# Altium schematic symbol library WCAP-ATLL.SchLib: 209 symbols (part 4 of 5)
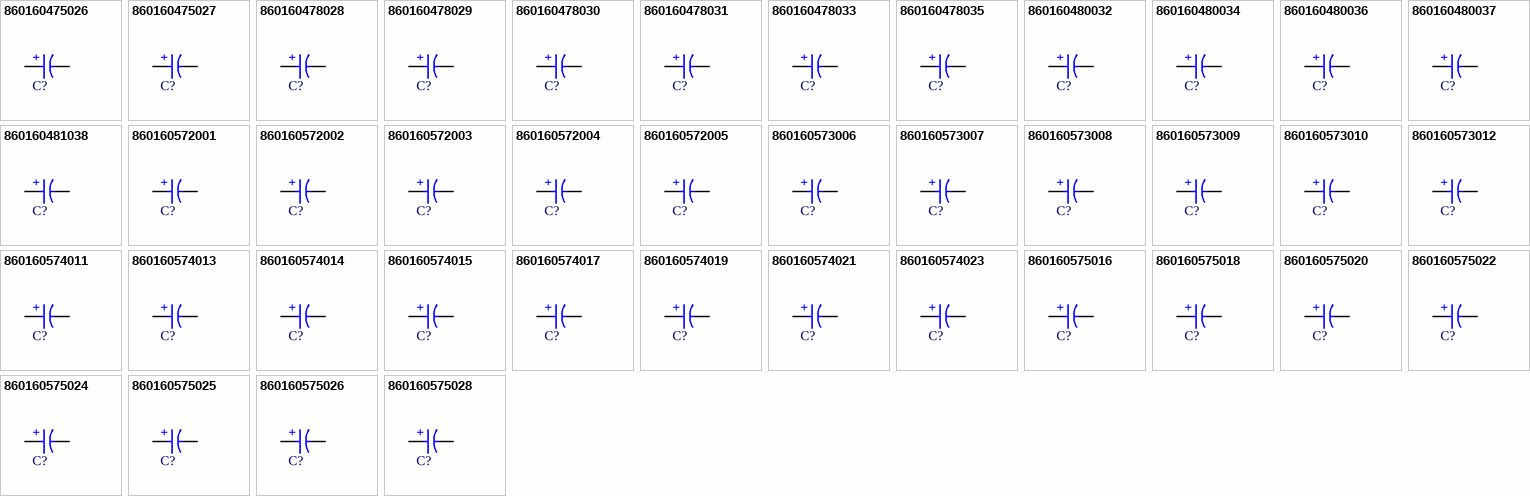
[diagram p8: symbols 860160475026 to 860160575028]

## 860160575024
designator C?, comment 330µF  (value not drawn)
WCAP-ATLL Aluminum Electrolytic Capacitor, Radial, THT, D10 x H16mm, 330µF, 35V; Manufacturer Part Number: 860160575024; Manufacturer: Wurth Elektronik; Capacitance Tolerance: +/-20%; Dissipation Factor: 12%; Endurance: 6000h; Leakage Current: 115.5µA; Ripple Current: 1176mA; Technical Reference: ATEF160331M035DSPAAF000; Category: Aluminum Electrolytic Capacitors; Match Code: WCAP-ATLL; ComponentLink1Description: Website Link; ComponentLink1URL: https://www.we-online.com/redexpert/article/860160575024?ad; ComponentLink2Description: Datasheet Link; ComponentLink2URL: https://www.we-online.com/redexpert/spec/860160575024?ad; Mount: Through Hole; Operating Temperature Max: 105°C; Operating Temperature Min: -55°C; Packaging: Ammo Pack; Height: 16mm; Diameter: 10mm; Capacitance: 330µF; Rated Voltage (DC): 35V
footprint WCAP-ATLL_D10H16
simulation model 860160575024_330uF
pins: 1 P, 2 N
text: +

## 860160575025
designator C?, comment 470µF  (value not drawn)
WCAP-ATLL Aluminum Electrolytic Capacitor, Radial, THT, D10 x H20mm, 470µF, 35V; Manufacturer Part Number: 860160575025; Manufacturer: Wurth Elektronik; Capacitance Tolerance: +/-20%; Dissipation Factor: 12%; Endurance: 6000h; Leakage Current: 164.5µA; Ripple Current: 1302mA; Technical Reference: ATEF200471M035DSPAAF000; Category: Aluminum Electrolytic Capacitors; Match Code: WCAP-ATLL; ComponentLink1Description: Website Link; ComponentLink1URL: https://www.we-online.com/redexpert/article/860160575025?ad; ComponentLink2Description: Datasheet Link; ComponentLink2URL: https://www.we-online.com/redexpert/spec/860160575025?ad; Mount: Through Hole; Operating Temperature Max: 105°C; Operating Temperature Min: -55°C; Packaging: Ammo Pack; Height: 20mm; Diameter: 10mm; Capacitance: 470µF; Rated Voltage (DC): 35V
footprint WCAP-ATLL_D10H20
simulation model 860160575025_470uF
pins: 1 P, 2 N
text: +

## 860160575026
designator C?, comment 560µF  (value not drawn)
WCAP-ATLL Aluminum Electrolytic Capacitor, Radial, THT, D10 x H25mm, 560µF, 35V; Manufacturer Part Number: 860160575026; Manufacturer: Wurth Elektronik; Capacitance Tolerance: +/-20%; Dissipation Factor: 12%; Endurance: 6000h; Leakage Current: 196µA; Ripple Current: 1572mA; Technical Reference: ATEF250561M035DSPAAF000; Category: Aluminum Electrolytic Capacitors; Match Code: WCAP-ATLL; ComponentLink1Description: Website Link; ComponentLink1URL: https://www.we-online.com/redexpert/article/860160575026?ad; ComponentLink2Description: Datasheet Link; ComponentLink2URL: https://www.we-online.com/redexpert/spec/860160575026?ad; Mount: Through Hole; Operating Temperature Max: 105°C; Operating Temperature Min: -55°C; Packaging: Ammo Pack; Height: 25mm; Diameter: 10mm; Capacitance: 560µF; Rated Voltage (DC): 35V
footprint WCAP-ATLL_D10H25
simulation model 860160575026_560uF
pins: 1 P, 2 N
text: +

## 860160575028
designator C?, comment 680µF  (value not drawn)
WCAP-ATLL Aluminum Electrolytic Capacitor, Radial, THT, D10 x H25mm, 680µF, 35V; Manufacturer Part Number: 860160575028; Manufacturer: Wurth Elektronik; Capacitance Tolerance: +/-20%; Dissipation Factor: 12%; Endurance: 6000h; Leakage Current: 238µA; Ripple Current: 1680mA; Technical Reference: ATEF250681M035DSPAAF000; Category: Aluminum Electrolytic Capacitors; Match Code: WCAP-ATLL; ComponentLink1Description: Website Link; ComponentLink1URL: https://www.we-online.com/redexpert/article/860160575028?ad; ComponentLink2Description: Datasheet Link; ComponentLink2URL: https://www.we-online.com/redexpert/spec/860160575028?ad; Mount: Through Hole; Operating Temperature Max: 105°C; Operating Temperature Min: -55°C; Packaging: Ammo Pack; Height: 25mm; Diameter: 10mm; Capacitance: 680µF; Rated Voltage (DC): 35V
footprint WCAP-ATLL_D10H25
simulation model 860160575028_680uF
pins: 1 P, 2 N
text: +

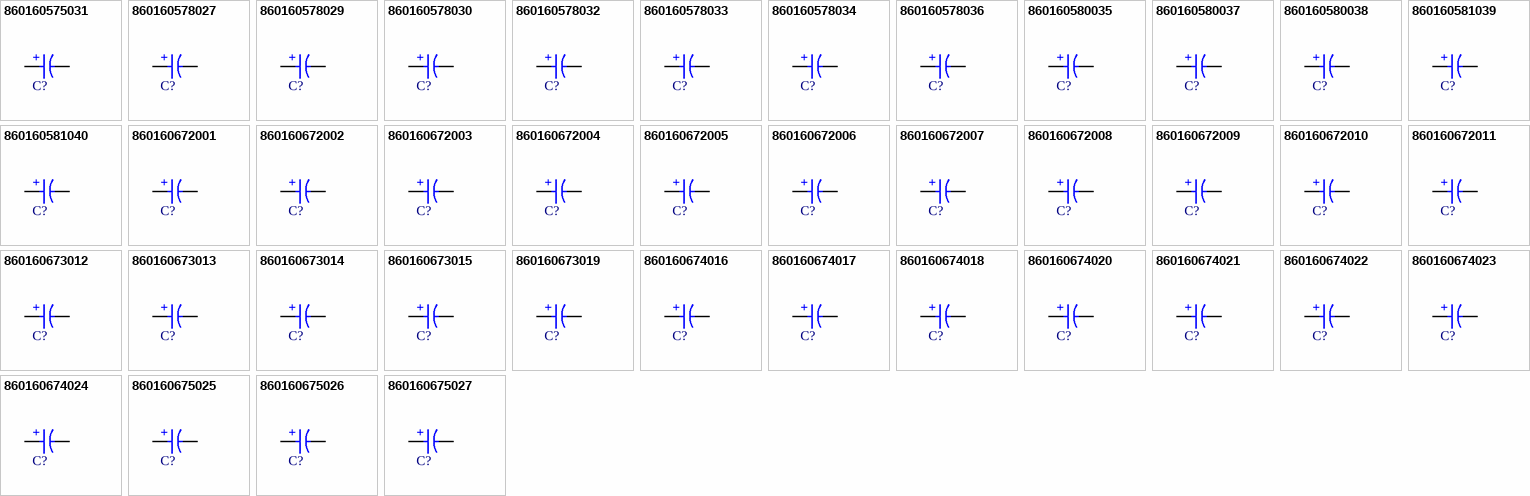
[diagram p4: symbols 860160575031 to 860160675027]

## 860160575031
designator C?, comment 1000µF  (value not drawn)
WCAP-ATLL Aluminum Electrolytic Capacitor, Radial, THT, D10 x H30mm, 1000µF, 35V; Manufacturer Part Number: 860160575031; Manufacturer: Wurth Elektronik; Capacitance Tolerance: +/-20%; Dissipation Factor: 12%; Endurance: 6000h; Leakage Current: 350µA; Ripple Current: 2136mA; Technical Reference: ATEF300102M035DSPAAF000; Category: Aluminum Electrolytic Capacitors; Match Code: WCAP-ATLL; ComponentLink1Description: Website Link; ComponentLink1URL: https://www.we-online.com/redexpert/article/860160575031?ad; ComponentLink2Description: Datasheet Link; ComponentLink2URL: https://www.we-online.com/redexpert/spec/860160575031?ad; Mount: Through Hole; Operating Temperature Max: 105°C; Operating Temperature Min: -55°C; Packaging: Ammo Pack; Height: 30mm; Diameter: 10mm; Capacitance: 1000µF; Rated Voltage (DC): 35V
footprint WCAP-ATLL_D10H30
simulation model 860160575031_1mF
pins: 1 P, 2 N
text: +

## 860160578027
designator C?, comment 560µF  (value not drawn)
WCAP-ATLL Aluminum Electrolytic Capacitor, Radial, THT, D13 x H20mm, 560µF, 35V; Manufacturer Part Number: 860160578027; Manufacturer: Wurth Elektronik; Capacitance Tolerance: +/-20%; Dissipation Factor: 12%; Endurance: 10000h; Leakage Current: 196µA; Ripple Current: 1584mA; Technical Reference: ATEI200561M035DSPACK000; Category: Aluminum Electrolytic Capacitors; Match Code: WCAP-ATLL; ComponentLink1Description: Website Link; ComponentLink1URL: https://www.we-online.com/redexpert/article/860160578027?ad; ComponentLink2Description: Datasheet Link; ComponentLink2URL: https://www.we-online.com/redexpert/spec/860160578027?ad; Mount: Through Hole; Operating Temperature Max: 105°C; Operating Temperature Min: -55°C; Packaging: Ammo Pack; Height: 20mm; Diameter: 13mm; Capacitance: 560µF; Rated Voltage (DC): 35V
footprint WCAP-ATLL_D13H20
simulation model 860160578027_560uF
pins: 1 P, 2 N
text: +

## 860160578029
designator C?, comment 680µF  (value not drawn)
WCAP-ATLL Aluminum Electrolytic Capacitor, Radial, THT, D13 x H20mm, 680µF, 35V; Manufacturer Part Number: 860160578029; Manufacturer: Wurth Elektronik; Capacitance Tolerance: +/-20%; Dissipation Factor: 12%; Endurance: 10000h; Leakage Current: 238µA; Ripple Current: 1692mA; Technical Reference: ATEI200681M035DSPACK000; Category: Aluminum Electrolytic Capacitors; Match Code: WCAP-ATLL; ComponentLink1Description: Website Link; ComponentLink1URL: https://www.we-online.com/redexpert/article/860160578029?ad; ComponentLink2Description: Datasheet Link; ComponentLink2URL: https://www.we-online.com/redexpert/spec/860160578029?ad; Mount: Through Hole; Operating Temperature Max: 105°C; Operating Temperature Min: -55°C; Packaging: Ammo Pack; Height: 20mm; Diameter: 13mm; Capacitance: 680µF; Rated Voltage (DC): 35V
footprint WCAP-ATLL_D13H20
simulation model 860160578029_680uF
pins: 1 P, 2 N
text: +

## 860160578030
designator C?, comment 820µF  (value not drawn)
WCAP-ATLL Aluminum Electrolytic Capacitor, Radial, THT, D13 x H20mm, 820µF, 35V; Manufacturer Part Number: 860160578030; Manufacturer: Wurth Elektronik; Capacitance Tolerance: +/-20%; Dissipation Factor: 12%; Endurance: 7000h; Leakage Current: 287µA; Ripple Current: 1818mA; Technical Reference: ATEI200821M035DSPACG000; Category: Aluminum Electrolytic Capacitors; Match Code: WCAP-ATLL; ComponentLink1Description: Website Link; ComponentLink1URL: https://www.we-online.com/redexpert/article/860160578030?ad; ComponentLink2Description: Datasheet Link; ComponentLink2URL: https://www.we-online.com/redexpert/spec/860160578030?ad; Mount: Through Hole; Operating Temperature Max: 105°C; Operating Temperature Min: -55°C; Packaging: Ammo Pack; Height: 20mm; Diameter: 13mm; Capacitance: 820µF; Rated Voltage (DC): 35V
footprint WCAP-ATLL_D13H20
simulation model 860160578030_820uF
pins: 1 P, 2 N
text: +

## 860160578032
designator C?, comment 1000µF  (value not drawn)
WCAP-ATLL Aluminum Electrolytic Capacitor, Radial, THT, D13 x H25mm, 1000µF, 35V; Manufacturer Part Number: 860160578032; Manufacturer: Wurth Elektronik; Capacitance Tolerance: +/-20%; Dissipation Factor: 12%; Endurance: 7000h; Leakage Current: 350µA; Ripple Current: 2184mA; Technical Reference: ATEI250102M035DSPACG000; Category: Aluminum Electrolytic Capacitors; Match Code: WCAP-ATLL; ComponentLink1Description: Website Link; ComponentLink1URL: https://www.we-online.com/redexpert/article/860160578032?ad; ComponentLink2Description: Datasheet Link; ComponentLink2URL: https://www.we-online.com/redexpert/spec/860160578032?ad; Mount: Through Hole; Operating Temperature Max: 105°C; Operating Temperature Min: -55°C; Packaging: Ammo Pack; Height: 25mm; Diameter: 13mm; Capacitance: 1000µF; Rated Voltage (DC): 35V
footprint WCAP-ATLL_D13H25
simulation model 860160578032_1mF
pins: 1 P, 2 N
text: +

## 860160578033
designator C?, comment 1200µF  (value not drawn)
WCAP-ATLL Aluminum Electrolytic Capacitor, Radial, THT, D13 x H25mm, 1200µF, 35V; Manufacturer Part Number: 860160578033; Manufacturer: Wurth Elektronik; Capacitance Tolerance: +/-20%; Dissipation Factor: 12%; Endurance: 7000h; Leakage Current: 420µA; Ripple Current: 2292mA; Technical Reference: ATEI250122M035DSPACG000; Category: Aluminum Electrolytic Capacitors; Match Code: WCAP-ATLL; ComponentLink1Description: Website Link; ComponentLink1URL: https://www.we-online.com/redexpert/article/860160578033?ad; ComponentLink2Description: Datasheet Link; ComponentLink2URL: https://www.we-online.com/redexpert/spec/860160578033?ad; Mount: Through Hole; Operating Temperature Max: 105°C; Operating Temperature Min: -55°C; Packaging: Ammo Pack; Height: 25mm; Diameter: 13mm; Capacitance: 1200µF; Rated Voltage (DC): 35V
footprint WCAP-ATLL_D13H25
simulation model 860160578033_1.2mF
pins: 1 P, 2 N
text: +

## 860160578034
designator C?, comment 1500µF  (value not drawn)
WCAP-ATLL Aluminum Electrolytic Capacitor, Radial, THT, D13 x H35mm, 1500µF, 35V; Manufacturer Part Number: 860160578034; Manufacturer: Wurth Elektronik; Capacitance Tolerance: +/-20%; Dissipation Factor: 12%; Endurance: 7000h; Leakage Current: 525µA; Ripple Current: 2820mA; Technical Reference: ATEI350152M035DSPABG000; Category: Aluminum Electrolytic Capacitors; Match Code: WCAP-ATLL; ComponentLink1Description: Website Link; ComponentLink1URL: https://www.we-online.com/redexpert/article/860160578034?ad; ComponentLink2Description: Datasheet Link; ComponentLink2URL: https://www.we-online.com/redexpert/spec/860160578034?ad; Mount: Through Hole; Operating Temperature Max: 105°C; Operating Temperature Min: -55°C; Packaging: Ammo Pack; Height: 35mm; Diameter: 13mm; Capacitance: 1500µF; Rated Voltage (DC): 35V
footprint WCAP-ATLL_D13H35
simulation model 860160578034_1.5mF
pins: 1 P, 2 N
text: +

## 860160578036
designator C?, comment 1800µF  (value not drawn)
WCAP-ATLL Aluminum Electrolytic Capacitor, Radial, THT, D13 x H35mm, 1800µF, 35V; Manufacturer Part Number: 860160578036; Manufacturer: Wurth Elektronik; Capacitance Tolerance: +/-20%; Dissipation Factor: 12%; Endurance: 7000h; Leakage Current: 630µA; Ripple Current: 2976mA; Technical Reference: ATEI350182M035DSPABG000; Category: Aluminum Electrolytic Capacitors; Match Code: WCAP-ATLL; ComponentLink1Description: Website Link; ComponentLink1URL: https://www.we-online.com/redexpert/article/860160578036?ad; ComponentLink2Description: Datasheet Link; ComponentLink2URL: https://www.we-online.com/redexpert/spec/860160578036?ad; Mount: Through Hole; Operating Temperature Max: 105°C; Operating Temperature Min: -55°C; Packaging: Ammo Pack; Height: 35mm; Diameter: 13mm; Capacitance: 1800µF; Rated Voltage (DC): 35V
footprint WCAP-ATLL_D13H35
simulation model 860160578036_1.8mF
pins: 1 P, 2 N
text: +

## 860160580035
designator C?, comment 1500µF  (value not drawn)
WCAP-ATLL Aluminum Electrolytic Capacitor, Radial, THT, D16 x H31.5mm, 1500µF, 35V; Manufacturer Part Number: 860160580035; Manufacturer: Wurth Elektronik; Capacitance Tolerance: +/-20%; Dissipation Factor: 12%; Endurance: 10000h; Leakage Current: 525µA; Ripple Current: 2928mA; Technical Reference: ATEK315152M035DSPADK000; Category: Aluminum Electrolytic Capacitors; Match Code: WCAP-ATLL; ComponentLink1Description: Website Link; ComponentLink1URL: https://www.we-online.com/redexpert/article/860160580035?ad; ComponentLink2Description: Datasheet Link; ComponentLink2URL: https://www.we-online.com/redexpert/spec/860160580035?ad; Mount: Through Hole; Operating Temperature Max: 105°C; Operating Temperature Min: -55°C; Packaging: Ammo Pack; Height: 31.5mm; Diameter: 16mm; Capacitance: 1500µF; Rated Voltage (DC): 35V
footprint WCAP-ATLL_D16H31.5
simulation model 860160580035_1.5mF
pins: 1 P, 2 N
text: +

## 860160580037
designator C?, comment 1800µF  (value not drawn)
WCAP-ATLL Aluminum Electrolytic Capacitor, Radial, THT, D16 x H31.5mm, 1800µF, 35V; Manufacturer Part Number: 860160580037; Manufacturer: Wurth Elektronik; Capacitance Tolerance: +/-20%; Dissipation Factor: 12%; Endurance: 10000h; Leakage Current: 630µA; Ripple Current: 3012mA; Technical Reference: ATEK315182M035DSPADK000; Category: Aluminum Electrolytic Capacitors; Match Code: WCAP-ATLL; ComponentLink1Description: Website Link; ComponentLink1URL: https://www.we-online.com/redexpert/article/860160580037?ad; ComponentLink2Description: Datasheet Link; ComponentLink2URL: https://www.we-online.com/redexpert/spec/860160580037?ad; Mount: Through Hole; Operating Temperature Max: 105°C; Operating Temperature Min: -55°C; Packaging: Ammo Pack; Height: 31.5mm; Diameter: 16mm; Capacitance: 1800µF; Rated Voltage (DC): 35V
footprint WCAP-ATLL_D16H31.5
simulation model 860160580037_1.8mF
pins: 1 P, 2 N
text: +

## 860160580038
designator C?, comment 2200µF  (value not drawn)
WCAP-ATLL Aluminum Electrolytic Capacitor, Radial, THT, D16 x H31.5mm, 2200µF, 35V; Manufacturer Part Number: 860160580038; Manufacturer: Wurth Elektronik; Capacitance Tolerance: +/-20%; Dissipation Factor: 12%; Endurance: 7000h; Leakage Current: 770µA; Ripple Current: 3228mA; Technical Reference: ATEK315222M035DSPADG000; Category: Aluminum Electrolytic Capacitors; Match Code: WCAP-ATLL; ComponentLink1Description: Website Link; ComponentLink1URL: https://www.we-online.com/redexpert/article/860160580038?ad; ComponentLink2Description: Datasheet Link; ComponentLink2URL: https://www.we-online.com/redexpert/spec/860160580038?ad; Mount: Through Hole; Operating Temperature Max: 105°C; Operating Temperature Min: -55°C; Packaging: Ammo Pack; Height: 31.5mm; Diameter: 16mm; Capacitance: 2200µF; Rated Voltage (DC): 35V
footprint WCAP-ATLL_D16H31.5
simulation model 860160580038_2.2mF
pins: 1 P, 2 N
text: +

## 860160581039
designator C?, comment 2200µF  (value not drawn)
WCAP-ATLL Aluminum Electrolytic Capacitor, Radial, THT, D18 x H25mm, 2200µF, 35V; Manufacturer Part Number: 860160581039; Manufacturer: Wurth Elektronik; Capacitance Tolerance: +/-20%; Dissipation Factor: 12%; Endurance: 7000h; Leakage Current: 770µA; Ripple Current: 3132mA; Technical Reference: ATEL250222M035DSPAEG000; Category: Aluminum Electrolytic Capacitors; Match Code: WCAP-ATLL; ComponentLink1Description: Website Link; ComponentLink1URL: https://www.we-online.com/redexpert/article/860160581039?ad; ComponentLink2Description: Datasheet Link; ComponentLink2URL: https://www.we-online.com/redexpert/spec/860160581039?ad; Mount: Through Hole; Operating Temperature Max: 105°C; Operating Temperature Min: -55°C; Packaging: Ammo Pack; Height: 25mm; Diameter: 18mm; Capacitance: 2200µF; Rated Voltage (DC): 35V
footprint WCAP-ATLL_D18H25
simulation model 860160581039_2.2mF
pins: 1 P, 2 N
text: +

## 860160581040
designator C?, comment 2700µF  (value not drawn)
WCAP-ATLL Aluminum Electrolytic Capacitor, Radial, THT, D18 x H31.5mm, 2700µF, 35V; Manufacturer Part Number: 860160581040; Manufacturer: Wurth Elektronik; Capacitance Tolerance: +/-20%; Dissipation Factor: 12%; Endurance: 7000h; Leakage Current: 945µA; Ripple Current: 3336mA; Technical Reference: ATEL315272M035DSPAEG000; Category: Aluminum Electrolytic Capacitors; Match Code: WCAP-ATLL; ComponentLink1Description: Website Link; ComponentLink1URL: https://www.we-online.com/redexpert/article/860160581040?ad; ComponentLink2Description: Datasheet Link; ComponentLink2URL: https://www.we-online.com/redexpert/spec/860160581040?ad; Mount: Through Hole; Operating Temperature Max: 105°C; Operating Temperature Min: -55°C; Packaging: Ammo Pack; Height: 31.5mm; Diameter: 18mm; Capacitance: 2700µF; Rated Voltage (DC): 35V
footprint WCAP-ATLL_D18H31.5
simulation model 860160581040_2.7mF
pins: 1 P, 2 N
text: +

## 860160672001
designator C?, comment 0.47µF  (value not drawn)
WCAP-ATLL Aluminum Electrolytic Capacitor, Radial, THT, D5 x H11mm, 0.47µF, 50V; Manufacturer Part Number: 860160672001; Manufacturer: Wurth Elektronik; Capacitance Tolerance: +/-20%; Dissipation Factor: 10%; Endurance: 4000h; Leakage Current: 3µA; Ripple Current: 12mA; Technical Reference: ATEC110R47M050DSPA3D000; Category: Aluminum Electrolytic Capacitors; Match Code: WCAP-ATLL; ComponentLink1Description: Website Link; ComponentLink1URL: https://www.we-online.com/redexpert/article/860160672001?ad; ComponentLink2Description: Datasheet Link; ComponentLink2URL: https://www.we-online.com/redexpert/spec/860160672001?ad; Mount: Through Hole; Operating Temperature Max: 105°C; Operating Temperature Min: -55°C; Packaging: Ammo Pack; Height: 11mm; Diameter: 5mm; Capacitance: 0.47µF; Rated Voltage (DC): 50V
footprint WCAP-ATLL_D5H11
simulation model 860160672001_470nF
pins: 1 P, 2 N
text: +

## 860160672002
designator C?, comment 1µF  (value not drawn)
WCAP-ATLL Aluminum Electrolytic Capacitor, Radial, THT, D5 x H11mm, 1µF, 50V; Manufacturer Part Number: 860160672002; Manufacturer: Wurth Elektronik; Capacitance Tolerance: +/-20%; Dissipation Factor: 10%; Endurance: 4000h; Leakage Current: 3µA; Ripple Current: 24mA; Technical Reference: ATEC110010M050DSPA3D000; Category: Aluminum Electrolytic Capacitors; Match Code: WCAP-ATLL; ComponentLink1Description: Website Link; ComponentLink1URL: https://www.we-online.com/redexpert/article/860160672002?ad; ComponentLink2Description: Datasheet Link; ComponentLink2URL: https://www.we-online.com/redexpert/spec/860160672002?ad; Mount: Through Hole; Operating Temperature Max: 105°C; Operating Temperature Min: -55°C; Packaging: Ammo Pack; Height: 11mm; Diameter: 5mm; Capacitance: 1µF; Rated Voltage (DC): 50V
footprint WCAP-ATLL_D5H11
simulation model 860160672002_1uF
pins: 1 P, 2 N
text: +

## 860160672003
designator C?, comment 2.2µF  (value not drawn)
WCAP-ATLL Aluminum Electrolytic Capacitor, Radial, THT, D5 x H11mm, 2.2µF, 50V; Manufacturer Part Number: 860160672003; Manufacturer: Wurth Elektronik; Capacitance Tolerance: +/-20%; Dissipation Factor: 10%; Endurance: 4000h; Leakage Current: 3µA; Ripple Current: 36mA; Technical Reference: ATEC1102R2M050DSPA3D000; Category: Aluminum Electrolytic Capacitors; Match Code: WCAP-ATLL; ComponentLink1Description: Website Link; ComponentLink1URL: https://www.we-online.com/redexpert/article/860160672003?ad; ComponentLink2Description: Datasheet Link; ComponentLink2URL: https://www.we-online.com/redexpert/spec/860160672003?ad; Mount: Through Hole; Operating Temperature Max: 105°C; Operating Temperature Min: -55°C; Packaging: Ammo Pack; Height: 11mm; Diameter: 5mm; Capacitance: 2.2µF; Rated Voltage (DC): 50V
footprint WCAP-ATLL_D5H11
simulation model 860160672003_2.2uF
pins: 1 P, 2 N
text: +

## 860160672004
designator C?, comment 3.3µF  (value not drawn)
WCAP-ATLL Aluminum Electrolytic Capacitor, Radial, THT, D5 x H11mm, 3.3µF, 50V; Manufacturer Part Number: 860160672004; Manufacturer: Wurth Elektronik; Capacitance Tolerance: +/-20%; Dissipation Factor: 10%; Endurance: 4000h; Leakage Current: 3µA; Ripple Current: 48mA; Technical Reference: ATEC1103R3M050DSPA3D000; Category: Aluminum Electrolytic Capacitors; Match Code: WCAP-ATLL; ComponentLink1Description: Website Link; ComponentLink1URL: https://www.we-online.com/redexpert/article/860160672004?ad; ComponentLink2Description: Datasheet Link; ComponentLink2URL: https://www.we-online.com/redexpert/spec/860160672004?ad; Mount: Through Hole; Operating Temperature Max: 105°C; Operating Temperature Min: -55°C; Packaging: Ammo Pack; Height: 11mm; Diameter: 5mm; Capacitance: 3.3µF; Rated Voltage (DC): 50V
footprint WCAP-ATLL_D5H11
simulation model 860160672004_3.3uF
pins: 1 P, 2 N
text: +

## 860160672005
designator C?, comment 4.7µF  (value not drawn)
WCAP-ATLL Aluminum Electrolytic Capacitor, Radial, THT, D5 x H11mm, 4.7µF, 50V; Manufacturer Part Number: 860160672005; Manufacturer: Wurth Elektronik; Capacitance Tolerance: +/-20%; Dissipation Factor: 10%; Endurance: 4000h; Leakage Current: 3µA; Ripple Current: 66mA; Technical Reference: ATEC1104R7M050DSPA3D000; Category: Aluminum Electrolytic Capacitors; Match Code: WCAP-ATLL; ComponentLink1Description: Website Link; ComponentLink1URL: https://www.we-online.com/redexpert/article/860160672005?ad; ComponentLink2Description: Datasheet Link; ComponentLink2URL: https://www.we-online.com/redexpert/spec/860160672005?ad; Mount: Through Hole; Operating Temperature Max: 105°C; Operating Temperature Min: -55°C; Packaging: Ammo Pack; Height: 11mm; Diameter: 5mm; Capacitance: 4.7µF; Rated Voltage (DC): 50V
footprint WCAP-ATLL_D5H11
simulation model 860160672005_4.7uF
pins: 1 P, 2 N
text: +

## 860160672006
designator C?, comment 5.6µF  (value not drawn)
WCAP-ATLL Aluminum Electrolytic Capacitor, Radial, THT, D5 x H11mm, 5.6µF, 50V; Manufacturer Part Number: 860160672006; Manufacturer: Wurth Elektronik; Capacitance Tolerance: +/-20%; Dissipation Factor: 10%; Endurance: 4000h; Leakage Current: 3µA; Ripple Current: 96mA; Technical Reference: ATEC1105R6M050DSPA3D000; Category: Aluminum Electrolytic Capacitors; Match Code: WCAP-ATLL; ComponentLink1Description: Website Link; ComponentLink1URL: https://www.we-online.com/redexpert/article/860160672006?ad; ComponentLink2Description: Datasheet Link; ComponentLink2URL: https://www.we-online.com/redexpert/spec/860160672006?ad; Mount: Through Hole; Operating Temperature Max: 105°C; Operating Temperature Min: -55°C; Packaging: Ammo Pack; Height: 11mm; Diameter: 5mm; Capacitance: 5.6µF; Rated Voltage (DC): 50V
footprint WCAP-ATLL_D5H11
simulation model 860160672006_5.6uF
pins: 1 P, 2 N
text: +

## 860160672007
designator C?, comment 6.8µF  (value not drawn)
WCAP-ATLL Aluminum Electrolytic Capacitor, Radial, THT, D5 x H11mm, 6.8µF, 50V; Manufacturer Part Number: 860160672007; Manufacturer: Wurth Elektronik; Capacitance Tolerance: +/-20%; Dissipation Factor: 10%; Endurance: 4000h; Leakage Current: 3.4µA; Ripple Current: 96mA; Technical Reference: ATEC1106R8M050DSPA3D000; Category: Aluminum Electrolytic Capacitors; Match Code: WCAP-ATLL; ComponentLink1Description: Website Link; ComponentLink1URL: https://www.we-online.com/redexpert/article/860160672007?ad; ComponentLink2Description: Datasheet Link; ComponentLink2URL: https://www.we-online.com/redexpert/spec/860160672007?ad; Mount: Through Hole; Operating Temperature Max: 105°C; Operating Temperature Min: -55°C; Packaging: Ammo Pack; Height: 11mm; Diameter: 5mm; Capacitance: 6.8µF; Rated Voltage (DC): 50V
footprint WCAP-ATLL_D5H11
simulation model 860160672007_6.8uF
pins: 1 P, 2 N
text: +

## 860160672008
designator C?, comment 8.2µF  (value not drawn)
WCAP-ATLL Aluminum Electrolytic Capacitor, Radial, THT, D5 x H11mm, 8.2µF, 50V; Manufacturer Part Number: 860160672008; Manufacturer: Wurth Elektronik; Capacitance Tolerance: +/-20%; Dissipation Factor: 10%; Endurance: 4000h; Leakage Current: 4.1µA; Ripple Current: 108mA; Technical Reference: ATEC1108R2M050DSPA3D000; Category: Aluminum Electrolytic Capacitors; Match Code: WCAP-ATLL; ComponentLink1Description: Website Link; ComponentLink1URL: https://www.we-online.com/redexpert/article/860160672008?ad; ComponentLink2Description: Datasheet Link; ComponentLink2URL: https://www.we-online.com/redexpert/spec/860160672008?ad; Mount: Through Hole; Operating Temperature Max: 105°C; Operating Temperature Min: -55°C; Packaging: Ammo Pack; Height: 11mm; Diameter: 5mm; Capacitance: 8.2µF; Rated Voltage (DC): 50V
footprint WCAP-ATLL_D5H11
simulation model 860160672008_8.2uF
pins: 1 P, 2 N
text: +

## 860160672009
designator C?, comment 10µF  (value not drawn)
WCAP-ATLL Aluminum Electrolytic Capacitor, Radial, THT, D5 x H11mm, 10µF, 50V; Manufacturer Part Number: 860160672009; Manufacturer: Wurth Elektronik; Capacitance Tolerance: +/-20%; Dissipation Factor: 10%; Endurance: 4000h; Leakage Current: 5µA; Ripple Current: 120mA; Technical Reference: ATEC110100M050DSPA3D000; Category: Aluminum Electrolytic Capacitors; Match Code: WCAP-ATLL; ComponentLink1Description: Website Link; ComponentLink1URL: https://www.we-online.com/redexpert/article/860160672009?ad; ComponentLink2Description: Datasheet Link; ComponentLink2URL: https://www.we-online.com/redexpert/spec/860160672009?ad; Mount: Through Hole; Operating Temperature Max: 105°C; Operating Temperature Min: -55°C; Packaging: Ammo Pack; Height: 11mm; Diameter: 5mm; Capacitance: 10µF; Rated Voltage (DC): 50V
footprint WCAP-ATLL_D5H11
simulation model 860160672009_10uF
pins: 1 P, 2 N
text: +

## 860160672010
designator C?, comment 15µF  (value not drawn)
WCAP-ATLL Aluminum Electrolytic Capacitor, Radial, THT, D5 x H11mm, 15µF, 50V; Manufacturer Part Number: 860160672010; Manufacturer: Wurth Elektronik; Capacitance Tolerance: +/-20%; Dissipation Factor: 10%; Endurance: 4000h; Leakage Current: 7.5µA; Ripple Current: 150mA; Technical Reference: ATEC110150M050DSPA3D000; Category: Aluminum Electrolytic Capacitors; Match Code: WCAP-ATLL; ComponentLink1Description: Website Link; ComponentLink1URL: https://www.we-online.com/redexpert/article/860160672010?ad; ComponentLink2Description: Datasheet Link; ComponentLink2URL: https://www.we-online.com/redexpert/spec/860160672010?ad; Mount: Through Hole; Operating Temperature Max: 105°C; Operating Temperature Min: -55°C; Packaging: Ammo Pack; Height: 11mm; Diameter: 5mm; Capacitance: 15µF; Rated Voltage (DC): 50V
footprint WCAP-ATLL_D5H11
simulation model 860160672010_15uF
pins: 1 P, 2 N
text: +

## 860160672011
designator C?, comment 22µF  (value not drawn)
WCAP-ATLL Aluminum Electrolytic Capacitor, Radial, THT, D5 x H11mm, 22µF, 50V; Manufacturer Part Number: 860160672011; Manufacturer: Wurth Elektronik; Capacitance Tolerance: +/-20%; Dissipation Factor: 10%; Endurance: 3000h; Leakage Current: 11µA; Ripple Current: 162mA; Technical Reference: ATEC110220M050DSPA3C000; Category: Aluminum Electrolytic Capacitors; Match Code: WCAP-ATLL; ComponentLink1Description: Website Link; ComponentLink1URL: https://www.we-online.com/redexpert/article/860160672011?ad; ComponentLink2Description: Datasheet Link; ComponentLink2URL: https://www.we-online.com/redexpert/spec/860160672011?ad; Mount: Through Hole; Operating Temperature Max: 105°C; Operating Temperature Min: -55°C; Packaging: Ammo Pack; Height: 11mm; Diameter: 5mm; Capacitance: 22µF; Rated Voltage (DC): 50V
footprint WCAP-ATLL_D5H11
simulation model 860160672011_22uF
pins: 1 P, 2 N
text: +

## 860160673012
designator C?, comment 27µF  (value not drawn)
WCAP-ATLL Aluminum Electrolytic Capacitor, Radial, THT, D6.3 x H11mm, 27µF, 50V; Manufacturer Part Number: 860160673012; Manufacturer: Wurth Elektronik; Capacitance Tolerance: +/-20%; Dissipation Factor: 10%; Endurance: 4000h; Leakage Current: 13.5µA; Ripple Current: 192mA; Technical Reference: ATED110270M050DSPA4D000; Category: Aluminum Electrolytic Capacitors; Match Code: WCAP-ATLL; ComponentLink1Description: Website Link; ComponentLink1URL: https://www.we-online.com/redexpert/article/860160673012?ad; ComponentLink2Description: Datasheet Link; ComponentLink2URL: https://www.we-online.com/redexpert/spec/860160673012?ad; Mount: Through Hole; Operating Temperature Max: 105°C; Operating Temperature Min: -55°C; Packaging: Ammo Pack; Height: 11mm; Diameter: 6.3mm; Capacitance: 27µF; Rated Voltage (DC): 50V
footprint WCAP-ATLL_D6.3H11
simulation model 860160673012_27uF
pins: 1 P, 2 N
text: +

## 860160673013
designator C?, comment 33µF  (value not drawn)
WCAP-ATLL Aluminum Electrolytic Capacitor, Radial, THT, D6.3 x H11mm, 33µF, 50V; Manufacturer Part Number: 860160673013; Manufacturer: Wurth Elektronik; Capacitance Tolerance: +/-20%; Dissipation Factor: 10%; Endurance: 3000h; Leakage Current: 16.5µA; Ripple Current: 282mA; Technical Reference: ATED110330M050DSPA4C000; Category: Aluminum Electrolytic Capacitors; Match Code: WCAP-ATLL; ComponentLink1Description: Website Link; ComponentLink1URL: https://www.we-online.com/redexpert/article/860160673013?ad; ComponentLink2Description: Datasheet Link; ComponentLink2URL: https://www.we-online.com/redexpert/spec/860160673013?ad; Mount: Through Hole; Operating Temperature Max: 105°C; Operating Temperature Min: -55°C; Packaging: Ammo Pack; Height: 11mm; Diameter: 6.3mm; Capacitance: 33µF; Rated Voltage (DC): 50V
footprint WCAP-ATLL_D6.3H11
simulation model 860160673013_33uF
pins: 1 P, 2 N
text: +

## 860160673014
designator C?, comment 39µF  (value not drawn)
WCAP-ATLL Aluminum Electrolytic Capacitor, Radial, THT, D6.3 x H11mm, 39µF, 50V; Manufacturer Part Number: 860160673014; Manufacturer: Wurth Elektronik; Capacitance Tolerance: +/-20%; Dissipation Factor: 10%; Endurance: 3000h; Leakage Current: 19.5µA; Ripple Current: 306mA; Technical Reference: ATED110390M050DSPA4C000; Category: Aluminum Electrolytic Capacitors; Match Code: WCAP-ATLL; ComponentLink1Description: Website Link; ComponentLink1URL: https://www.we-online.com/redexpert/article/860160673014?ad; ComponentLink2Description: Datasheet Link; ComponentLink2URL: https://www.we-online.com/redexpert/spec/860160673014?ad; Mount: Through Hole; Operating Temperature Max: 105°C; Operating Temperature Min: -55°C; Packaging: Ammo Pack; Height: 11mm; Diameter: 6.3mm; Capacitance: 39µF; Rated Voltage (DC): 50V
footprint WCAP-ATLL_D6.3H11
simulation model 860160673014_39uF
pins: 1 P, 2 N
text: +

## 860160673015
designator C?, comment 47µF  (value not drawn)
WCAP-ATLL Aluminum Electrolytic Capacitor, Radial, THT, D6.3 x H15mm, 47µF, 50V; Manufacturer Part Number: 860160673015; Manufacturer: Wurth Elektronik; Capacitance Tolerance: +/-20%; Dissipation Factor: 10%; Endurance: 4000h; Leakage Current: 23.5µA; Ripple Current: 348mA; Technical Reference: ATED150470M050DSPA4D000; Category: Aluminum Electrolytic Capacitors; Match Code: WCAP-ATLL; ComponentLink1Description: Website Link; ComponentLink1URL: https://www.we-online.com/redexpert/article/860160673015?ad; ComponentLink2Description: Datasheet Link; ComponentLink2URL: https://www.we-online.com/redexpert/spec/860160673015?ad; Mount: Through Hole; Operating Temperature Max: 105°C; Operating Temperature Min: -55°C; Packaging: Ammo Pack; Height: 15mm; Diameter: 6.3mm; Capacitance: 47µF; Rated Voltage (DC): 50V
footprint WCAP-ATLL_D6.3H15
simulation model 860160673015_47uF
pins: 1 P, 2 N
text: +

## 860160673019
designator C?, comment 82µF  (value not drawn)
WCAP-ATLL Aluminum Electrolytic Capacitor, Radial, THT, D6.3 x H15mm, 82µF, 50V; Manufacturer Part Number: 860160673019; Manufacturer: Wurth Elektronik; Capacitance Tolerance: +/-20%; Dissipation Factor: 10%; Endurance: 3000h; Leakage Current: 41µA; Ripple Current: 462mA; Technical Reference: ATED150820M050DSPA4C000; Category: Aluminum Electrolytic Capacitors; Match Code: WCAP-ATLL; ComponentLink1Description: Website Link; ComponentLink1URL: https://www.we-online.com/redexpert/article/860160673019?ad; ComponentLink2Description: Datasheet Link; ComponentLink2URL: https://www.we-online.com/redexpert/spec/860160673019?ad; Mount: Through Hole; Operating Temperature Max: 105°C; Operating Temperature Min: -55°C; Packaging: Ammo Pack; Height: 15mm; Diameter: 6.3mm; Capacitance: 82µF; Rated Voltage (DC): 50V
footprint WCAP-ATLL_D6.3H15
simulation model 860160673019_82uF
pins: 1 P, 2 N
text: +

## 860160674016
designator C?, comment 47µF  (value not drawn)
WCAP-ATLL Aluminum Electrolytic Capacitor, Radial, THT, D8 x H11.5mm, 47µF, 50V; Manufacturer Part Number: 860160674016; Manufacturer: Wurth Elektronik; Capacitance Tolerance: +/-20%; Dissipation Factor: 10%; Endurance: 7000h; Leakage Current: 23.5µA; Ripple Current: 366mA; Technical Reference: ATEE115470M050DSPA7G000; Category: Aluminum Electrolytic Capacitors; Match Code: WCAP-ATLL; ComponentLink1Description: Website Link; ComponentLink1URL: https://www.we-online.com/redexpert/article/860160674016?ad; ComponentLink2Description: Datasheet Link; ComponentLink2URL: https://www.we-online.com/redexpert/spec/860160674016?ad; Mount: Through Hole; Operating Temperature Max: 105°C; Operating Temperature Min: -55°C; Packaging: Ammo Pack; Height: 11.5mm; Diameter: 8mm; Capacitance: 47µF; Rated Voltage (DC): 50V
footprint WCAP-ATLL_D8H11.5
simulation model 860160674016_47uF
pins: 1 P, 2 N
text: +

## 860160674017
designator C?, comment 56µF  (value not drawn)
WCAP-ATLL Aluminum Electrolytic Capacitor, Radial, THT, D8 x H11.5mm, 56µF, 50V; Manufacturer Part Number: 860160674017; Manufacturer: Wurth Elektronik; Capacitance Tolerance: +/-20%; Dissipation Factor: 10%; Endurance: 7000h; Leakage Current: 28µA; Ripple Current: 378mA; Technical Reference: ATEE115560M050DSPA7G000; Category: Aluminum Electrolytic Capacitors; Match Code: WCAP-ATLL; ComponentLink1Description: Website Link; ComponentLink1URL: https://www.we-online.com/redexpert/article/860160674017?ad; ComponentLink2Description: Datasheet Link; ComponentLink2URL: https://www.we-online.com/redexpert/spec/860160674017?ad; Mount: Through Hole; Operating Temperature Max: 105°C; Operating Temperature Min: -55°C; Packaging: Ammo Pack; Height: 11.5mm; Diameter: 8mm; Capacitance: 56µF; Rated Voltage (DC): 50V
footprint WCAP-ATLL_D8H11.5
simulation model 860160674017_56uF
pins: 1 P, 2 N
text: +

## 860160674018
designator C?, comment 68µF  (value not drawn)
WCAP-ATLL Aluminum Electrolytic Capacitor, Radial, THT, D8 x H11.5mm, 68µF, 50V; Manufacturer Part Number: 860160674018; Manufacturer: Wurth Elektronik; Capacitance Tolerance: +/-20%; Dissipation Factor: 10%; Endurance: 7000h; Leakage Current: 34µA; Ripple Current: 420mA; Technical Reference: ATEE115680M050DSPA7G000; Category: Aluminum Electrolytic Capacitors; Match Code: WCAP-ATLL; ComponentLink1Description: Website Link; ComponentLink1URL: https://www.we-online.com/redexpert/article/860160674018?ad; ComponentLink2Description: Datasheet Link; ComponentLink2URL: https://www.we-online.com/redexpert/spec/860160674018?ad; Mount: Through Hole; Operating Temperature Max: 105°C; Operating Temperature Min: -55°C; Packaging: Ammo Pack; Height: 11.5mm; Diameter: 8mm; Capacitance: 68µF; Rated Voltage (DC): 50V
footprint WCAP-ATLL_D8H11.5
simulation model 860160674018_68uF
pins: 1 P, 2 N
text: +

## 860160674020
designator C?, comment 82µF  (value not drawn)
WCAP-ATLL Aluminum Electrolytic Capacitor, Radial, THT, D8 x H11.5mm, 82µF, 50V; Manufacturer Part Number: 860160674020; Manufacturer: Wurth Elektronik; Capacitance Tolerance: +/-20%; Dissipation Factor: 10%; Endurance: 4000h; Leakage Current: 41µA; Ripple Current: 492mA; Technical Reference: ATEE115820M050DSPA7D000; Category: Aluminum Electrolytic Capacitors; Match Code: WCAP-ATLL; ComponentLink1Description: Website Link; ComponentLink1URL: https://www.we-online.com/redexpert/article/860160674020?ad; ComponentLink2Description: Datasheet Link; ComponentLink2URL: https://www.we-online.com/redexpert/spec/860160674020?ad; Mount: Through Hole; Operating Temperature Max: 105°C; Operating Temperature Min: -55°C; Packaging: Ammo Pack; Height: 11.5mm; Diameter: 8mm; Capacitance: 82µF; Rated Voltage (DC): 50V
footprint WCAP-ATLL_D8H11.5
simulation model 860160674020_82uF
pins: 1 P, 2 N
text: +

## 860160674021
designator C?, comment 100µF  (value not drawn)
WCAP-ATLL Aluminum Electrolytic Capacitor, Radial, THT, D8 x H11.5mm, 100µF, 50V; Manufacturer Part Number: 860160674021; Manufacturer: Wurth Elektronik; Capacitance Tolerance: +/-20%; Dissipation Factor: 10%; Endurance: 4000h; Leakage Current: 50µA; Ripple Current: 540mA; Technical Reference: ATEE115101M050DSPA7D000; Category: Aluminum Electrolytic Capacitors; Match Code: WCAP-ATLL; ComponentLink1Description: Website Link; ComponentLink1URL: https://www.we-online.com/redexpert/article/860160674021?ad; ComponentLink2Description: Datasheet Link; ComponentLink2URL: https://www.we-online.com/redexpert/spec/860160674021?ad; Mount: Through Hole; Operating Temperature Max: 105°C; Operating Temperature Min: -55°C; Packaging: Ammo Pack; Height: 11.5mm; Diameter: 8mm; Capacitance: 100µF; Rated Voltage (DC): 50V
footprint WCAP-ATLL_D8H11.5
simulation model 860160674021_100uF
pins: 1 P, 2 N
text: +

## 860160674022
designator C?, comment 120µF  (value not drawn)
WCAP-ATLL Aluminum Electrolytic Capacitor, Radial, THT, D8 x H16mm, 120µF, 50V; Manufacturer Part Number: 860160674022; Manufacturer: Wurth Elektronik; Capacitance Tolerance: +/-20%; Dissipation Factor: 10%; Endurance: 7000h; Leakage Current: 60µA; Ripple Current: 630mA; Technical Reference: ATEE160121M050DSPA7G000; Category: Aluminum Electrolytic Capacitors; Match Code: WCAP-ATLL; ComponentLink1Description: Website Link; ComponentLink1URL: https://www.we-online.com/redexpert/article/860160674022?ad; ComponentLink2Description: Datasheet Link; ComponentLink2URL: https://www.we-online.com/redexpert/spec/860160674022?ad; Mount: Through Hole; Operating Temperature Max: 105°C; Operating Temperature Min: -55°C; Packaging: Ammo Pack; Height: 16mm; Diameter: 8mm; Capacitance: 120µF; Rated Voltage (DC): 50V
footprint WCAP-ATLL_D8H16
simulation model 860160674022_120uF
pins: 1 P, 2 N
text: +

## 860160674023
designator C?, comment 150µF  (value not drawn)
WCAP-ATLL Aluminum Electrolytic Capacitor, Radial, THT, D8 x H16mm, 150µF, 50V; Manufacturer Part Number: 860160674023; Manufacturer: Wurth Elektronik; Capacitance Tolerance: +/-20%; Dissipation Factor: 10%; Endurance: 4000h; Leakage Current: 75µA; Ripple Current: 696mA; Technical Reference: ATEE160151M050DSPA7D000; Category: Aluminum Electrolytic Capacitors; Match Code: WCAP-ATLL; ComponentLink1Description: Website Link; ComponentLink1URL: https://www.we-online.com/redexpert/article/860160674023?ad; ComponentLink2Description: Datasheet Link; ComponentLink2URL: https://www.we-online.com/redexpert/spec/860160674023?ad; Mount: Through Hole; Operating Temperature Max: 105°C; Operating Temperature Min: -55°C; Packaging: Ammo Pack; Height: 16mm; Diameter: 8mm; Capacitance: 150µF; Rated Voltage (DC): 50V
footprint WCAP-ATLL_D8H16
simulation model 860160674023_150uF
pins: 1 P, 2 N
text: +

## 860160674024
designator C?, comment 180µF  (value not drawn)
WCAP-ATLL Aluminum Electrolytic Capacitor, Radial, THT, D8 x H20mm, 180µF, 50V; Manufacturer Part Number: 860160674024; Manufacturer: Wurth Elektronik; Capacitance Tolerance: +/-20%; Dissipation Factor: 10%; Endurance: 4000h; Leakage Current: 90µA; Ripple Current: 864mA; Technical Reference: ATEE200181M050DSPA7D000; Category: Aluminum Electrolytic Capacitors; Match Code: WCAP-ATLL; ComponentLink1Description: Website Link; ComponentLink1URL: https://www.we-online.com/redexpert/article/860160674024?ad; ComponentLink2Description: Datasheet Link; ComponentLink2URL: https://www.we-online.com/redexpert/spec/860160674024?ad; Mount: Through Hole; Operating Temperature Max: 105°C; Operating Temperature Min: -55°C; Packaging: Ammo Pack; Height: 20mm; Diameter: 8mm; Capacitance: 180µF; Rated Voltage (DC): 50V
footprint WCAP-ATLL_D8H20
simulation model 860160674024_180uF
pins: 1 P, 2 N
text: +

## 860160675025
designator C?, comment 180µF  (value not drawn)
WCAP-ATLL Aluminum Electrolytic Capacitor, Radial, THT, D10 x H16mm, 180µF, 50V; Manufacturer Part Number: 860160675025; Manufacturer: Wurth Elektronik; Capacitance Tolerance: +/-20%; Dissipation Factor: 10%; Endurance: 7000h; Leakage Current: 90µA; Ripple Current: 912mA; Technical Reference: ATEF160181M050DSPAAG000; Category: Aluminum Electrolytic Capacitors; Match Code: WCAP-ATLL; ComponentLink1Description: Website Link; ComponentLink1URL: https://www.we-online.com/redexpert/article/860160675025?ad; ComponentLink2Description: Datasheet Link; ComponentLink2URL: https://www.we-online.com/redexpert/spec/860160675025?ad; Mount: Through Hole; Operating Temperature Max: 105°C; Operating Temperature Min: -55°C; Packaging: Ammo Pack; Height: 16mm; Diameter: 10mm; Capacitance: 180µF; Rated Voltage (DC): 50V
footprint WCAP-ATLL_D10H16
simulation model 860160675025_180uF
pins: 1 P, 2 N
text: +

## 860160675026
designator C?, comment 220µF  (value not drawn)
WCAP-ATLL Aluminum Electrolytic Capacitor, Radial, THT, D10 x H16mm, 220µF, 50V; Manufacturer Part Number: 860160675026; Manufacturer: Wurth Elektronik; Capacitance Tolerance: +/-20%; Dissipation Factor: 10%; Endurance: 6000h; Leakage Current: 110µA; Ripple Current: 1056mA; Technical Reference: ATEF160221M050DSPAAF000; Category: Aluminum Electrolytic Capacitors; Match Code: WCAP-ATLL; ComponentLink1Description: Website Link; ComponentLink1URL: https://www.we-online.com/redexpert/article/860160675026?ad; ComponentLink2Description: Datasheet Link; ComponentLink2URL: https://www.we-online.com/redexpert/spec/860160675026?ad; Mount: Through Hole; Operating Temperature Max: 105°C; Operating Temperature Min: -55°C; Packaging: Ammo Pack; Height: 16mm; Diameter: 10mm; Capacitance: 220µF; Rated Voltage (DC): 50V
footprint WCAP-ATLL_D10H16
simulation model 860160675026_220uF
pins: 1 P, 2 N
text: +

## 860160675027
designator C?, comment 270µF  (value not drawn)
WCAP-ATLL Aluminum Electrolytic Capacitor, Radial, THT, D10 x H20mm, 270µF, 50V; Manufacturer Part Number: 860160675027; Manufacturer: Wurth Elektronik; Capacitance Tolerance: +/-20%; Dissipation Factor: 10%; Endurance: 6000h; Leakage Current: 135µA; Ripple Current: 1212mA; Technical Reference: ATEF200271M050DSPAAF000; Category: Aluminum Electrolytic Capacitors; Match Code: WCAP-ATLL; ComponentLink1Description: Website Link; ComponentLink1URL: https://www.we-online.com/redexpert/article/860160675027?ad; ComponentLink2Description: Datasheet Link; ComponentLink2URL: https://www.we-online.com/redexpert/spec/860160675027?ad; Mount: Through Hole; Operating Temperature Max: 105°C; Operating Temperature Min: -55°C; Packaging: Ammo Pack; Height: 20mm; Diameter: 10mm; Capacitance: 270µF; Rated Voltage (DC): 50V
footprint WCAP-ATLL_D10H20
simulation model 860160675027_270uF
pins: 1 P, 2 N
text: +

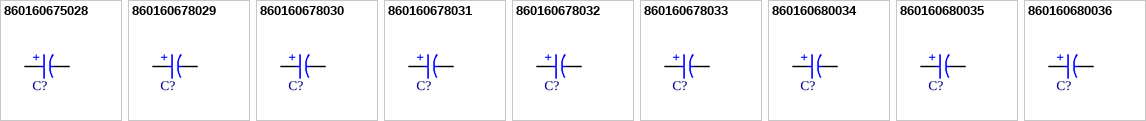
[diagram p5: symbols 860160675028 to 860160680036]

## 860160675028
designator C?, comment 330µF  (value not drawn)
WCAP-ATLL Aluminum Electrolytic Capacitor, Radial, THT, D10 x H25mm, 330µF, 50V; Manufacturer Part Number: 860160675028; Manufacturer: Wurth Elektronik; Capacitance Tolerance: +/-20%; Dissipation Factor: 10%; Endurance: 6000h; Leakage Current: 165µA; Ripple Current: 1404mA; Technical Reference: ATEF250331M050DSPAAF000; Category: Aluminum Electrolytic Capacitors; Match Code: WCAP-ATLL; ComponentLink1Description: Website Link; ComponentLink1URL: https://www.we-online.com/redexpert/article/860160675028?ad; ComponentLink2Description: Datasheet Link; ComponentLink2URL: https://www.we-online.com/redexpert/spec/860160675028?ad; Mount: Through Hole; Operating Temperature Max: 105°C; Operating Temperature Min: -55°C; Packaging: Ammo Pack; Height: 25mm; Diameter: 10mm; Capacitance: 330µF; Rated Voltage (DC): 50V
footprint WCAP-ATLL_D10H25
simulation model 860160675028_330uF
pins: 1 P, 2 N
text: +

## 860160678029
designator C?, comment 330µF  (value not drawn)
WCAP-ATLL Aluminum Electrolytic Capacitor, Radial, THT, D13 x H20mm, 330µF, 50V; Manufacturer Part Number: 860160678029; Manufacturer: Wurth Elektronik; Capacitance Tolerance: +/-20%; Dissipation Factor: 10%; Endurance: 10000h; Leakage Current: 165µA; Ripple Current: 1500mA; Technical Reference: ATEI200331M050DSPACK000; Category: Aluminum Electrolytic Capacitors; Match Code: WCAP-ATLL; ComponentLink1Description: Website Link; ComponentLink1URL: https://www.we-online.com/redexpert/article/860160678029?ad; ComponentLink2Description: Datasheet Link; ComponentLink2URL: https://www.we-online.com/redexpert/spec/860160678029?ad; Mount: Through Hole; Operating Temperature Max: 105°C; Operating Temperature Min: -55°C; Packaging: Ammo Pack; Height: 20mm; Diameter: 13mm; Capacitance: 330µF; Rated Voltage (DC): 50V
footprint WCAP-ATLL_D13H20
simulation model 860160678029_330uF
pins: 1 P, 2 N
text: +

## 860160678030
designator C?, comment 470µF  (value not drawn)
WCAP-ATLL Aluminum Electrolytic Capacitor, Radial, THT, D13 x H20mm, 470µF, 50V; Manufacturer Part Number: 860160678030; Manufacturer: Wurth Elektronik; Capacitance Tolerance: +/-20%; Dissipation Factor: 10%; Endurance: 7000h; Leakage Current: 235µA; Ripple Current: 1776mA; Technical Reference: ATEI200471M050DSPACG000; Category: Aluminum Electrolytic Capacitors; Match Code: WCAP-ATLL; ComponentLink1Description: Website Link; ComponentLink1URL: https://www.we-online.com/redexpert/article/860160678030?ad; ComponentLink2Description: Datasheet Link; ComponentLink2URL: https://www.we-online.com/redexpert/spec/860160678030?ad; Mount: Through Hole; Operating Temperature Max: 105°C; Operating Temperature Min: -55°C; Packaging: Ammo Pack; Height: 20mm; Diameter: 13mm; Capacitance: 470µF; Rated Voltage (DC): 50V
footprint WCAP-ATLL_D13H20
simulation model 860160678030_470uF
pins: 1 P, 2 N
text: +

## 860160678031
designator C?, comment 560µF  (value not drawn)
WCAP-ATLL Aluminum Electrolytic Capacitor, Radial, THT, D13 x H20mm, 560µF, 50V; Manufacturer Part Number: 860160678031; Manufacturer: Wurth Elektronik; Capacitance Tolerance: +/-20%; Dissipation Factor: 10%; Endurance: 7000h; Leakage Current: 280µA; Ripple Current: 2094mA; Technical Reference: ATEI200561M050DSPACG000; Category: Aluminum Electrolytic Capacitors; Match Code: WCAP-ATLL; ComponentLink1Description: Website Link; ComponentLink1URL: https://www.we-online.com/redexpert/article/860160678031?ad; ComponentLink2Description: Datasheet Link; ComponentLink2URL: https://www.we-online.com/redexpert/spec/860160678031?ad; Mount: Through Hole; Operating Temperature Max: 105°C; Operating Temperature Min: -55°C; Packaging: Ammo Pack; Height: 20mm; Diameter: 13mm; Capacitance: 560µF; Rated Voltage (DC): 50V
footprint WCAP-ATLL_D13H20
simulation model 860160678031_560uF
pins: 1 P, 2 N
text: +

## 860160678032
designator C?, comment 680µF  (value not drawn)
WCAP-ATLL Aluminum Electrolytic Capacitor, Radial, THT, D13 x H25mm, 680µF, 50V; Manufacturer Part Number: 860160678032; Manufacturer: Wurth Elektronik; Capacitance Tolerance: +/-20%; Dissipation Factor: 10%; Endurance: 7000h; Leakage Current: 340µA; Ripple Current: 2304mA; Technical Reference: ATEI250681M050DSPACG000; Category: Aluminum Electrolytic Capacitors; Match Code: WCAP-ATLL; ComponentLink1Description: Website Link; ComponentLink1URL: https://www.we-online.com/redexpert/article/860160678032?ad; ComponentLink2Description: Datasheet Link; ComponentLink2URL: https://www.we-online.com/redexpert/spec/860160678032?ad; Mount: Through Hole; Operating Temperature Max: 105°C; Operating Temperature Min: -55°C; Packaging: Ammo Pack; Height: 25mm; Diameter: 13mm; Capacitance: 680µF; Rated Voltage (DC): 50V
footprint WCAP-ATLL_D13H25
simulation model 860160678032_680uF
pins: 1 P, 2 N
text: +

## 860160678033
designator C?, comment 820µF  (value not drawn)
WCAP-ATLL Aluminum Electrolytic Capacitor, Radial, THT, D13 x H30mm, 820µF, 50V; Manufacturer Part Number: 860160678033; Manufacturer: Wurth Elektronik; Capacitance Tolerance: +/-20%; Dissipation Factor: 10%; Endurance: 7000h; Leakage Current: 410µA; Ripple Current: 2412mA; Technical Reference: ATEI300821M050DSPACG000; Category: Aluminum Electrolytic Capacitors; Match Code: WCAP-ATLL; ComponentLink1Description: Website Link; ComponentLink1URL: https://www.we-online.com/redexpert/article/860160678033?ad; ComponentLink2Description: Datasheet Link; ComponentLink2URL: https://www.we-online.com/redexpert/spec/860160678033?ad; Mount: Through Hole; Operating Temperature Max: 105°C; Operating Temperature Min: -55°C; Packaging: Ammo Pack; Height: 30mm; Diameter: 13mm; Capacitance: 820µF; Rated Voltage (DC): 50V
footprint WCAP-ATLL_D13H30
simulation model 860160678033_820uF
pins: 1 P, 2 N
text: +

## 860160680034
designator C?, comment 1000µF  (value not drawn)
WCAP-ATLL Aluminum Electrolytic Capacitor, Radial, THT, D16 x H25mm, 1000µF, 50V; Manufacturer Part Number: 860160680034; Manufacturer: Wurth Elektronik; Capacitance Tolerance: +/-20%; Dissipation Factor: 10%; Endurance: 7000h; Leakage Current: 500µA; Ripple Current: 2676mA; Technical Reference: ATEK250102M050DSPAEG000; Category: Aluminum Electrolytic Capacitors; Match Code: WCAP-ATLL; ComponentLink1Description: Website Link; ComponentLink1URL: https://www.we-online.com/redexpert/article/860160680034?ad; ComponentLink2Description: Datasheet Link; ComponentLink2URL: https://www.we-online.com/redexpert/spec/860160680034?ad; Mount: Through Hole; Operating Temperature Max: 105°C; Operating Temperature Min: -55°C; Packaging: Ammo Pack; Height: 25mm; Diameter: 16mm; Capacitance: 1000µF; Rated Voltage (DC): 50V
footprint WCAP-ATLL_D16H25
simulation model 860160680034_1mF
pins: 1 P, 2 N
text: +

## 860160680035
designator C?, comment 1200µF  (value not drawn)
WCAP-ATLL Aluminum Electrolytic Capacitor, Radial, THT, D16 x H31.5mm, 1200µF, 50V; Manufacturer Part Number: 860160680035; Manufacturer: Wurth Elektronik; Capacitance Tolerance: +/-20%; Dissipation Factor: 10%; Endurance: 7000h; Leakage Current: 600µA; Ripple Current: 2952mA; Technical Reference: ATEK315122M050DSPADG000; Category: Aluminum Electrolytic Capacitors; Match Code: WCAP-ATLL; ComponentLink1Description: Website Link; ComponentLink1URL: https://www.we-online.com/redexpert/article/860160680035?ad; ComponentLink2Description: Datasheet Link; ComponentLink2URL: https://www.we-online.com/redexpert/spec/860160680035?ad; Mount: Through Hole; Operating Temperature Max: 105°C; Operating Temperature Min: -55°C; Packaging: Ammo Pack; Height: 31.5mm; Diameter: 16mm; Capacitance: 1200µF; Rated Voltage (DC): 50V
footprint WCAP-ATLL_D16H31.5
simulation model 860160680035_1.2mF
pins: 1 P, 2 N
text: +